# Altium schematic symbol library diploma.SchLib: 36 symbols
Pins are listed as number, name and electrical type; pins without a type are passive.

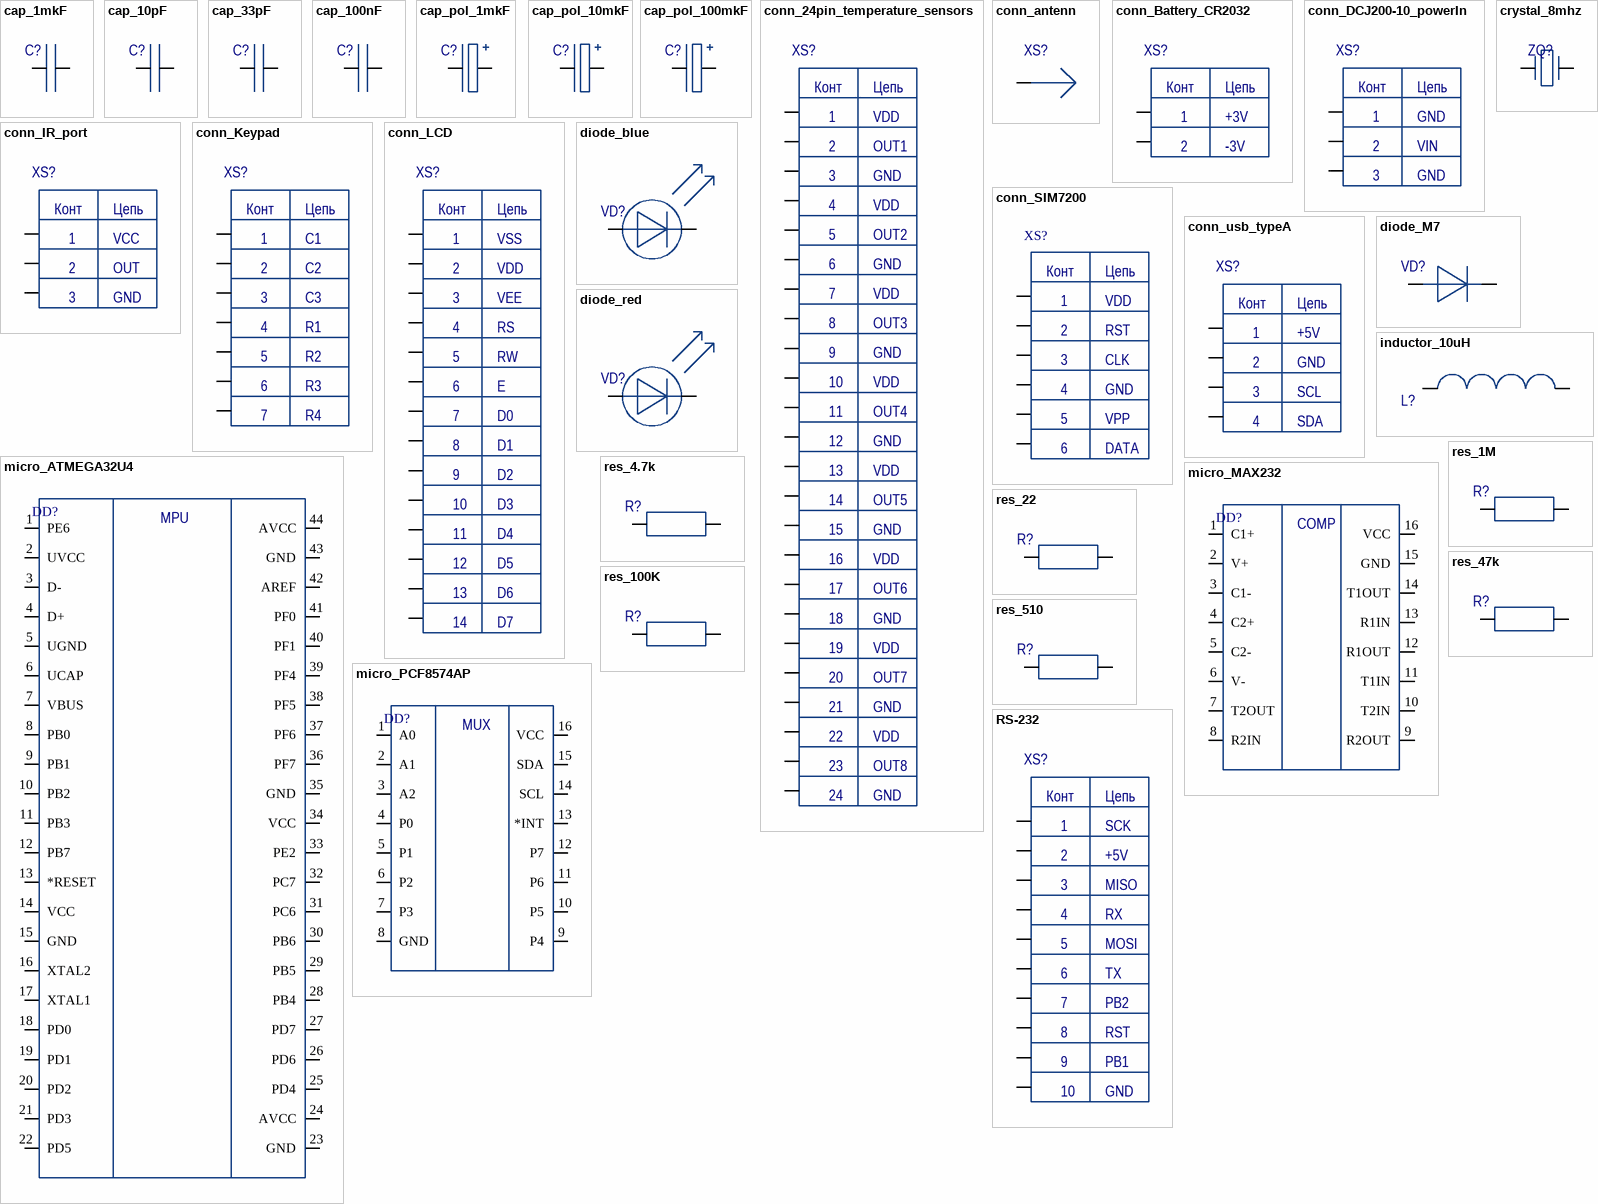
[diagram p0: symbols cap_1mkF to RS-232]

## cap_1mkF
designator C?, comment 1mkF  (value not drawn)
footprint CAP_0805_GRM
pins: 1, 2

## cap_10pF
designator C?, comment 10pF  (value not drawn)
footprint CAP_0805_GRM
pins: 1, 2

## cap_33pF
designator C?, comment 33pF  (value not drawn)
footprint CAP_0805_GRM
pins: 1, 2

## cap_100nF
designator C?, comment 100nF  (value not drawn)
footprint CAP_0805_GRM
pins: 1, 2

## cap_pol_1mkF
designator C?, comment pol_1mkF  (value not drawn)
footprint PCAP_5x11-THRU-ELECT_NCA
pins: 1, 2

## cap_pol_10mkF
designator C?, comment pol_10mkF  (value not drawn)
footprint PCAP_6_3x11THRU-ELECT_NCA
pins: 1, 2

## cap_pol_100mkF
designator C?, comment pol_100mkF  (value not drawn)
footprint PCAP_10X20_RUB
pins: 1, 2

## conn_24pin_temperature_sensors
designator XS?, comment BH-24  (value not drawn)
footprint conn_24pin_TSW-108-08-T-T
pins: 1 VSS, 2 VDD, 3 VO, 4 C/D, 5 *RD, 6 *WR, 7 D0, 8 D1, 9 D2, 10 D3, 11 D4, 12 D5, 13 D6, 14 D7, 15, 16, 17, 18, 19, 20, 21, 22, 23, 24
text: Конт; Цепь; OUT1; GND; OUT2; OUT3; OUT4; OUT5; OUT6; OUT7; OUT8

## conn_antenn
designator XS?, comment antenn_RECE.20279.001E.01  (value not drawn)
footprint conn_antenn_901-9894-RFX
pins: 1

## conn_Battery_CR2032
designator XS?, comment KLS5-CR2032-01  (value not drawn)
footprint conn_BAT_BH600
pins: 1 VCC, 2
text: Конт; Цепь; +3V; -3V

## conn_DCJ200-10_powerIn
designator XS?, comment DCJ200-10  (value not drawn)
footprint conn_DCJ200-10
pins: 1 +5V, 2 GND, 3 SCL
text: Конт; Цепь; VIN

## conn_IR_port
designator XS?, comment VS1833B_IR_port  (value not drawn)
footprint conn_3pin_TSW-103-05-G-S
pins: 1 VCC, 2 OUT, 3 GND
text: Конт; Цепь

## conn_Keypad
designator XS?, comment KUIBIAOCHI_7pin_aliexp  (value not drawn)
footprint conn_7pin_TSW-107-05-G-D (2.54mm pitch, 7 pin, terminal strip; straight, single row)
pins: 1 VSS, 2 VDD, 3 VO, 4 C/D, 5 *RD, 6 *WR, 7 D0
text: Конт; Цепь; C1; C2; C3; R1; R2; R3; R4

## conn_LCD
designator XS?, comment KUIBIAOCHI_14pin_aliexp  (value not drawn)
footprint conn_14pin_TSW-107-05-G-D
pins: 1 VSS, 2 VDD, 3 VO, 4 C/D, 5 *RD, 6 *WR, 7 D0, 8 D1, 9 D2, 10 D3, 11 D4, 12 D5, 13 D6, 14 D7
text: Конт; Цепь; VEE; RS; RW; E

## conn_SIM7200
designator XS?, comment SIM7200-6-0-18-00-X_REVA  (value not drawn)
No Description Available; Manufacturer_Part_Number: SIM5051-6-0-18-00-A; Vendor: Global Connector Technology; Built_By: EMA_Cory; SourceLibrary: GCT_2020-07-23; Datasheet: https://gct.co/files/drawings/sim5051.pdf; Copyright: Copyright (C) 2018 Accelerated Designs. All rights reserved; RefDes: RefDes; Type: DEV
footprint CONN_SIM7200-6-0-18-00-X_REVA
pins: 1 VCC (power), 2 RST, 3 CLK, 4 GND, 5 VPP (power), 6 I/O
text: Конт; Цепь; VDD; DATA

## conn_usb_typeA
designator XS?, comment DS1095 W-R  (value not drawn)
footprint conn_USB-A-S-X-X-SM2
pins: 1 +5V, 2 GND, 3 SCL, 4 SDA
text: Конт; Цепь

## crystal_8mhz
designator ZQ?, comment HC-49S  (value not drawn)
footprint CRYSTAL_HC49S_MTC
pins: 1, 2

## diode_blue
designator VD?, comment blue_GNL-3014BC  (value not drawn)
footprint LED_151054RS03000
pins: 1, 2

## diode_M7
designator VD?, comment M7  (value not drawn)
footprint M7_DO-214AC_DTC
pins: 1, 2

## diode_red
designator VD?, comment red_GNL-3012HD  (value not drawn)
footprint LED_151054RS03000
pins: 1, 2

## inductor_10uH
designator L?, comment B82432-A1103-K  (value not drawn)
footprint IND_EPCOS_B82432A_EPC
pins: 1, 2

## micro_ATMEGA32U4
designator DD?, comment ATMEGA32U4RC-AU  (value not drawn)
No Description Available; Vendor: Atmel; Built_By: EMA_UL_Team; SourceLibrary: Atmel_2015-02-13; Manufacturer_Part_Number: ATMEGA32U4RC-AU; Copyright: Copyright (C) 2018 Accelerated Designs. All rights reserved; RefDes: RefDes; Type: DEV
footprint atmega32u4_44ML_ATM
pins: 1 PE6, 2 UVCC, 3 D-, 4 D+, 5 UGND, 6 UCAP, 7 VBUS, 8 PB0, 9 PB1, 10 PB2, 11 PB3, 12 PB7, 13 *RESET, 14 VCC, 15 GND, 16 XTAL2, 17 XTAL1, 18 PD0, 19 PD1, 20 PD2, 21 PD3, 22 PD5, 23 GND, 24 AVCC, 25 PD4, 26 PD6, 27 PD7, 28 PB4, 29 PB5, 30 PB6, 31 PC6, 32 PC7, 33 PE2, 34 VCC, 35 GND, 36 PF7, 37 PF6, 38 PF5, 39 PF4, 40 PF1, 41 PF0, 42 AREF, 43 GND, 44 AVCC
text: MPU

## micro_MAX232
designator DD?, comment MAX232CSE+  (value not drawn)
No Description Available; SourceLibrary: Update_to_database_2021-01-29; Built_By: EMA_UL_Team; Vendor: Maxim Integrated Products; Revision: 4; Manufacturer_Part_Number: MAX232CSE+; Copyright: Copyright (C) 2018 Accelerated Designs. All rights reserved; RefDes: RefDes; Type: DEV
footprint max232_dip16
pins: 1 C1+, 2 V+, 3 C1-, 4 C2+, 5 C2-, 6 V-, 7 T2OUT, 8 R2IN, 9 R2OUT, 10 T2IN, 11 T1IN, 12 R1OUT, 13 R1IN, 14 T1OUT, 15 GND, 16 VCC
text: COMP

## micro_PCF8574AP
designator DD?, comment PCF8574AP  (value not drawn)
No Description Available; Vendor: NXP; Built_By: EMA_UL_Team; SourceLibrary: NXP_2011-11-10; Manufacturer_Part_Number: PCF8574AP; Copyright: Copyright (C) 2018 Accelerated Designs. All rights reserved; RefDes: RefDes; Type: DEV
footprint SOT38-4_NXP
pins: 1 A0, 2 A1, 3 A2, 4 P0, 5 P1, 6 P2, 7 P3, 8 GND, 9 P4, 10 P5, 11 P6, 12 P7, 13 *INT, 14 SCL, 15 SDA, 16 VCC
text: MUX

## res_1M
designator R?  (value not drawn)
footprint RC0805N_YAG
pins: 1, 2

## res_4.7k
designator R?  (value not drawn)
footprint RC0805N_YAG
pins: 1, 2

## res_22
designator R?  (value not drawn)
footprint RC0805N_YAG
pins: 1, 2

## res_47k
designator R?  (value not drawn)
footprint RC0805N_YAG
pins: 1, 2

## res_100K
designator R?  (value not drawn)
footprint RC0805N_YAG
pins: 1, 2

## res_510
designator R?  (value not drawn)
footprint RC0805N_YAG
pins: 1, 2

## RS-232
designator XS?, comment BH-10  (value not drawn)
footprint conn_10pin_TE_5-102570-3
pins: 1 VSS, 2 VDD, 3 VO, 4 C/D, 5 *RD, 6 *WR, 7 D0, 8 D1, 9 D2, 10 D3
text: Конт; Цепь; SCK; +5V; MISO; RX; MOSI; TX; PB2; RST; PB1; GND

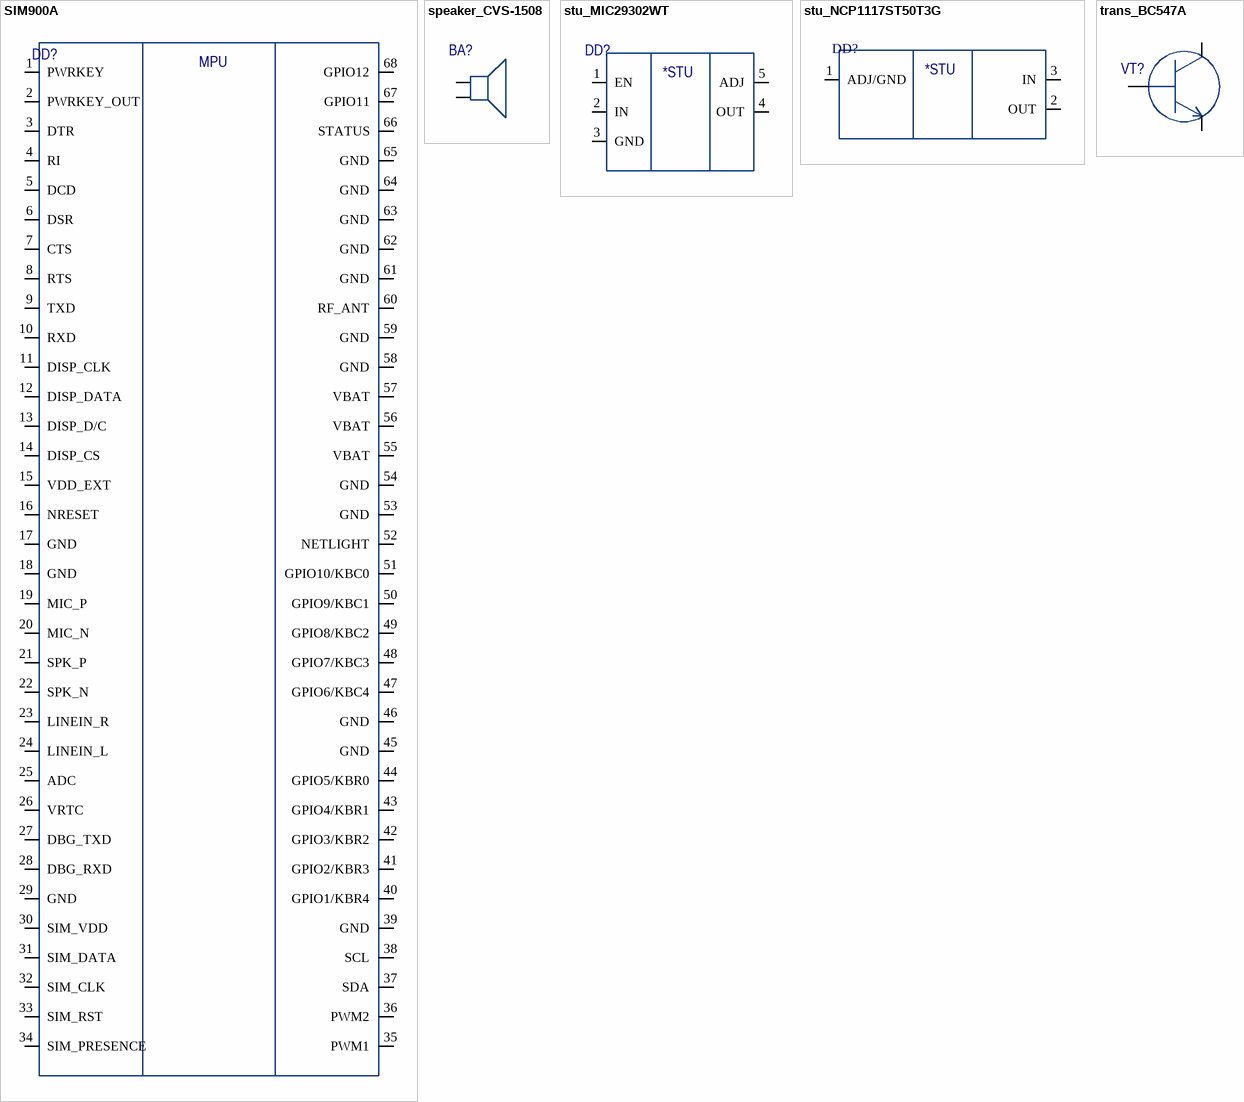
[diagram p1: symbols SIM900A to trans_BC547A]

## SIM900A
designator DD?  (value not drawn)
footprint SIM800A_SMM
pins: 1 PWRKEY, 2 PWRKEY_OUT, 3 DTR, 4 RI, 5 DCD, 6 DSR, 7 CTS, 8 RTS, 9 TXD, 10 RXD, 11 DISP_CLK, 12 DISP_DATA, 13 DISP_D/C, 14 DISP_CS, 15 VDD_EXT, 16 NRESET, 17 GND, 18 GND, 19 MIC_P, 20 MIC_N, 21 SPK_P, 22 SPK_N, 23 LINEIN_R, 24 LINEIN_L, 25 ADC, 26 VRTC, 27 DBG_TXD, 28 DBG_RXD, 29 GND, 30 SIM_VDD, 31 SIM_DATA, 32 SIM_CLK, 33 SIM_RST, 34 SIM_PRESENCE, 35 PWM1, 36 PWM2, 37 SDA, 38 SCL, 39 GND, 40 GPIO1/KBR4, 41 GPIO2/KBR3, 42 GPIO3/KBR2, 43 GPIO4/KBR1, 44 GPIO5/KBR0, 45 GND, 46 GND, 47 GPIO6/KBC4, 48 GPIO7/KBC3, 49 GPIO8/KBC2, 50 GPIO9/KBC1, 51 GPIO10/KBC0, 52 NETLIGHT, 53 GND, 54 GND, 55 VBAT, 56 VBAT, 57 VBAT, 58 GND, 59 GND, 60 RF_ANT, 61 GND, 62 GND, 63 GND, 64 GND, 65 GND, 66 STATUS, 67 GPIO11, 68 GPIO12
text: MPU

## speaker_CVS-1508
designator BA?  (value not drawn)
footprint SPeaKeR_CVS-1508
pins: 1, 2

## stu_MIC29302WT
designator DD?, comment MIC29302WT  (value not drawn)
footprint TO-263-5_MCH
pins: 1 EN, 2 IN, 3 GND, 4 OUT, 5 ADJ
text: *STU

## stu_NCP1117ST50T3G
designator DD?, comment NCP1117ST50T3G  (value not drawn)
No Description Available; Vendor: ON Semiconductor; SourceLibrary: ONSemi_2017-12-12_4; Manufacturer_Part_Number: NCP1117ST50T3G; Copyright: Copyright (C) 2016 Accelerated Designs. All rights reserved; RefDes: RefDes; Type: DEV
footprint SOT223-3_ONS
pins: 1 ADJ/GND, 2 OUT, 3 IN
text: *STU

## trans_BC547A
designator VT?, comment BC547A  (value not drawn)
footprint TO-92-3_ONS
pins: 1 E, 2 B, 3 C